# Altium schematic symbol library con-commcon.SCHLIB: 18 symbols
Pins are listed as number, name and electrical type; pins without a type are passive.

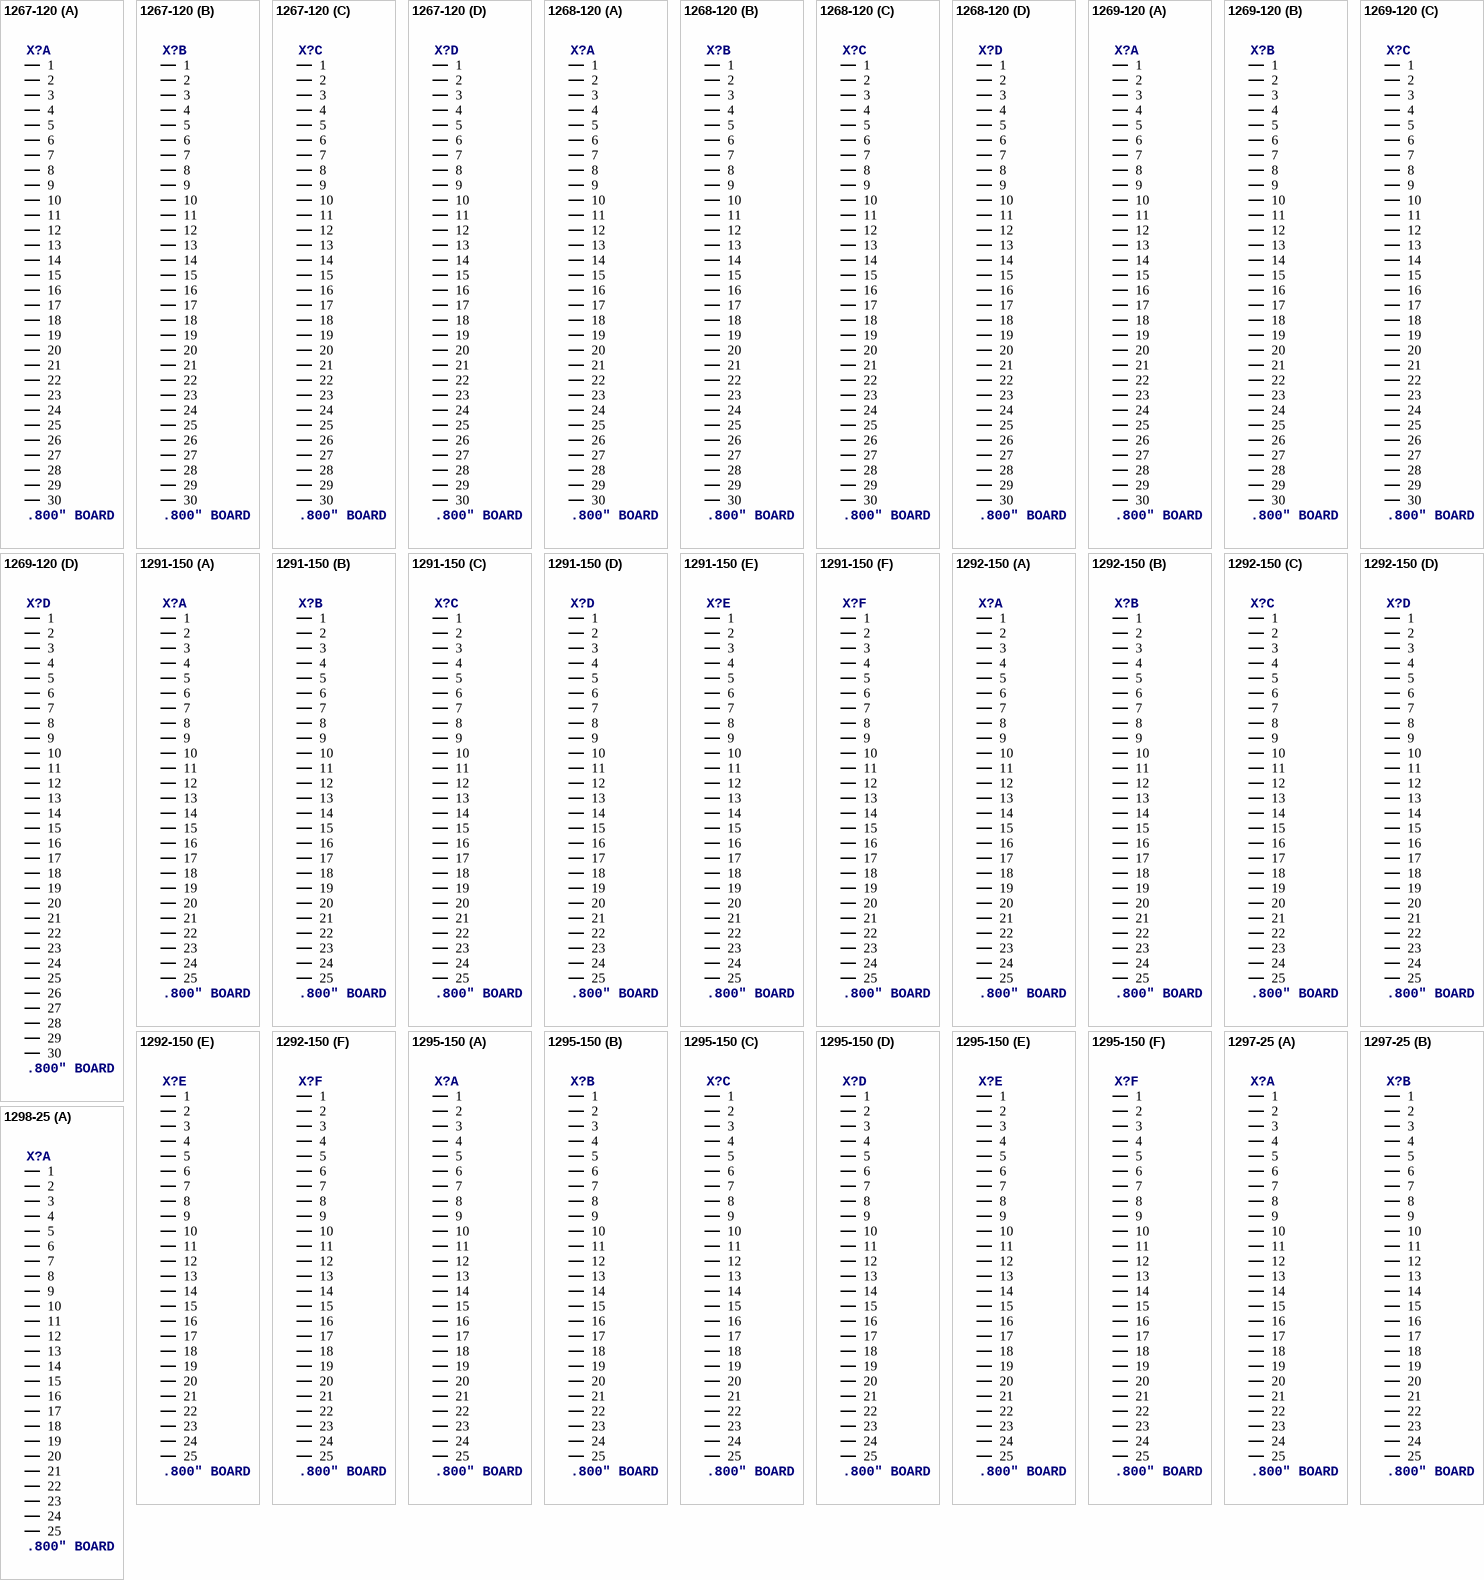
[diagram p0: symbols 1267-120 to 1298-25]

## 1267-120
designator X?, comment .800" BOARD SPACE 2mm CONNECTORS - HI TEMP   FOUR ROW 2mm - STACKTHROUGH & NON-STACKTHROUGH
OC_FARNELL: unknown; OC_NEWARK: unknown
footprint 1267-120
part A pins: A1 1, A2 2, A3 3, A4 4, A5 5, A6 6, A7 7, A8 8, A9 9, A10 10, A11 11, A12 12, A13 13, A14 14, A15 15, A16 16, A17 17, A18 18, A19 19, A20 20, A21 21, A22 22, A23 23, A24 24, A25 25, A26 26, A27 27, A28 28, A29 29, A30 30
part B pins: B1 1, B2 2, B3 3, B4 4, B5 5, B6 6, B7 7, B8 8, B9 9, B10 10, B11 11, B12 12, B13 13, B14 14, B15 15, B16 16, B17 17, B18 18, B19 19, B20 20, B21 21, B22 22, B23 23, B24 24, B25 25, B26 26, B27 27, B28 28, B29 29, B30 30
part C pins: C1 1, C2 2, C3 3, C4 4, C5 5, C6 6, C7 7, C8 8, C9 9, C10 10, C11 11, C12 12, C13 13, C14 14, C15 15, C16 16, C17 17, C18 18, C19 19, C20 20, C21 21, C22 22, C23 23, C24 24, C25 25, C26 26, C27 27, C28 28, C29 29, C30 30
part D pins: D1 1, D2 2, D3 3, D4 4, D5 5, D6 6, D7 7, D8 8, D9 9, D10 10, D11 11, D12 12, D13 13, D14 14, D15 15, D16 16, D17 17, D18 18, D19 19, D20 20, D21 21, D22 22, D23 23, D24 24, D25 25, D26 26, D27 27, D28 28, D29 29, D30 30

## 1268-120
designator X?, comment .800" BOARD SPACE 2mm CONNECTORS - HI TEMP   FOUR ROW 2mm - STACKTHROUGH & NON-STACKTHROUGH
OC_FARNELL: unknown; OC_NEWARK: unknown
footprint 1268-120
part A pins: A1 1, A2 2, A3 3, A4 4, A5 5, A6 6, A7 7, A8 8, A9 9, A10 10, A11 11, A12 12, A13 13, A14 14, A15 15, A16 16, A17 17, A18 18, A19 19, A20 20, A21 21, A22 22, A23 23, A24 24, A25 25, A26 26, A27 27, A28 28, A29 29, A30 30
part B pins: B1 1, B2 2, B3 3, B4 4, B5 5, B6 6, B7 7, B8 8, B9 9, B10 10, B11 11, B12 12, B13 13, B14 14, B15 15, B16 16, B17 17, B18 18, B19 19, B20 20, B21 21, B22 22, B23 23, B24 24, B25 25, B26 26, B27 27, B28 28, B29 29, B30 30
part C pins: C1 1, C2 2, C3 3, C4 4, C5 5, C6 6, C7 7, C8 8, C9 9, C10 10, C11 11, C12 12, C13 13, C14 14, C15 15, C16 16, C17 17, C18 18, C19 19, C20 20, C21 21, C22 22, C23 23, C24 24, C25 25, C26 26, C27 27, C28 28, C29 29, C30 30
part D pins: D1 1, D2 2, D3 3, D4 4, D5 5, D6 6, D7 7, D8 8, D9 9, D10 10, D11 11, D12 12, D13 13, D14 14, D15 15, D16 16, D17 17, D18 18, D19 19, D20 20, D21 21, D22 22, D23 23, D24 24, D25 25, D26 26, D27 27, D28 28, D29 29, D30 30

## 1269-120
designator X?, comment .800" BOARD SPACE 2mm CONNECTORS - HI TEMP   FOUR ROW 2mm - STACKTHROUGH & NON-STACKTHROUGH
OC_FARNELL: unknown; OC_NEWARK: unknown
footprint 1269-120
part A pins: A1 1, A2 2, A3 3, A4 4, A5 5, A6 6, A7 7, A8 8, A9 9, A10 10, A11 11, A12 12, A13 13, A14 14, A15 15, A16 16, A17 17, A18 18, A19 19, A20 20, A21 21, A22 22, A23 23, A24 24, A25 25, A26 26, A27 27, A28 28, A29 29, A30 30
part B pins: B1 1, B2 2, B3 3, B4 4, B5 5, B6 6, B7 7, B8 8, B9 9, B10 10, B11 11, B12 12, B13 13, B14 14, B15 15, B16 16, B17 17, B18 18, B19 19, B20 20, B21 21, B22 22, B23 23, B24 24, B25 25, B26 26, B27 27, B28 28, B29 29, B30 30
part C pins: C1 1, C2 2, C3 3, C4 4, C5 5, C6 6, C7 7, C8 8, C9 9, C10 10, C11 11, C12 12, C13 13, C14 14, C15 15, C16 16, C17 17, C18 18, C19 19, C20 20, C21 21, C22 22, C23 23, C24 24, C25 25, C26 26, C27 27, C28 28, C29 29, C30 30
part D pins: D1 1, D2 2, D3 3, D4 4, D5 5, D6 6, D7 7, D8 8, D9 9, D10 10, D11 11, D12 12, D13 13, D14 14, D15 15, D16 16, D17 17, D18 18, D19 19, D20 20, D21 21, D22 22, D23 23, D24 24, D25 25, D26 26, D27 27, D28 28, D29 29, D30 30

## 1291-150
designator X?, comment .800" BOARD SPACE 2mm CONNECTORS - HI TEMP   6 ROW 2mm - NON-STACKTHROUGH
OC_FARNELL: unknown; OC_NEWARK: unknown
footprint 1291-150
part A pins: A1 1, A2 2, A3 3, A4 4, A5 5, A6 6, A7 7, A8 8, A9 9, A10 10, A11 11, A12 12, A13 13, A14 14, A15 15, A16 16, A17 17, A18 18, A19 19, A20 20, A21 21, A22 22, A23 23, A24 24, A25 25
part B pins: B1 1, B2 2, B3 3, B4 4, B5 5, B6 6, B7 7, B8 8, B9 9, B10 10, B11 11, B12 12, B13 13, B14 14, B15 15, B16 16, B17 17, B18 18, B19 19, B20 20, B21 21, B22 22, B23 23, B24 24, B25 25
part C pins: C1 1, C2 2, C3 3, C4 4, C5 5, C6 6, C7 7, C8 8, C9 9, C10 10, C11 11, C12 12, C13 13, C14 14, C15 15, C16 16, C17 17, C18 18, C19 19, C20 20, C21 21, C22 22, C23 23, C24 24, C25 25
part D pins: D1 1, D2 2, D3 3, D4 4, D5 5, D6 6, D7 7, D8 8, D9 9, D10 10, D11 11, D12 12, D13 13, D14 14, D15 15, D16 16, D17 17, D18 18, D19 19, D20 20, D21 21, D22 22, D23 23, D24 24, D25 25
part E pins: E1 1, E2 2, E3 3, E4 4, E5 5, E6 6, E7 7, E8 8, E9 9, E10 10, E11 11, E12 12, E13 13, E14 14, E15 15, E16 16, E17 17, E18 18, E19 19, E20 20, E21 21, E22 22, E23 23, E24 24, E25 25
part F pins: F1 1, F2 2, F3 3, F4 4, F5 5, F6 6, F7 7, F8 8, F9 9, F10 10, F11 11, F12 12, F13 13, F14 14, F15 15, F16 16, F17 17, F18 18, F19 19, F20 20, F21 21, F22 22, F23 23, F24 24, F25 25

## 1292-150
designator X?, comment .800" BOARD SPACE 2mm CONNECTORS - HI TEMP   6 ROW 2mm - STACKTHROUGH
OC_FARNELL: unknown; OC_NEWARK: unknown
footprint 1292-150
part A pins: A1 1, A2 2, A3 3, A4 4, A5 5, A6 6, A7 7, A8 8, A9 9, A10 10, A11 11, A12 12, A13 13, A14 14, A15 15, A16 16, A17 17, A18 18, A19 19, A20 20, A21 21, A22 22, A23 23, A24 24, A25 25
part B pins: B1 1, B2 2, B3 3, B4 4, B5 5, B6 6, B7 7, B8 8, B9 9, B10 10, B11 11, B12 12, B13 13, B14 14, B15 15, B16 16, B17 17, B18 18, B19 19, B20 20, B21 21, B22 22, B23 23, B24 24, B25 25
part C pins: C1 1, C2 2, C3 3, C4 4, C5 5, C6 6, C7 7, C8 8, C9 9, C10 10, C11 11, C12 12, C13 13, C14 14, C15 15, C16 16, C17 17, C18 18, C19 19, C20 20, C21 21, C22 22, C23 23, C24 24, C25 25
part D pins: D1 1, D2 2, D3 3, D4 4, D5 5, D6 6, D7 7, D8 8, D9 9, D10 10, D11 11, D12 12, D13 13, D14 14, D15 15, D16 16, D17 17, D18 18, D19 19, D20 20, D21 21, D22 22, D23 23, D24 24, D25 25
part E pins: E1 1, E2 2, E3 3, E4 4, E5 5, E6 6, E7 7, E8 8, E9 9, E10 10, E11 11, E12 12, E13 13, E14 14, E15 15, E16 16, E17 17, E18 18, E19 19, E20 20, E21 21, E22 22, E23 23, E24 24, E25 25
part F pins: F1 1, F2 2, F3 3, F4 4, F5 5, F6 6, F7 7, F8 8, F9 9, F10 10, F11 11, F12 12, F13 13, F14 14, F15 15, F16 16, F17 17, F18 18, F19 19, F20 20, F21 21, F22 22, F23 23, F24 24, F25 25

## 1295-150
designator X?, comment .800" BOARD SPACE 2mm CONNECTORS - HI TEMP   6 ROW 2mm- END OF STACK HEADER
OC_FARNELL: unknown; OC_NEWARK: unknown
footprint 1295-150
part A pins: A1 1, A2 2, A3 3, A4 4, A5 5, A6 6, A7 7, A8 8, A9 9, A10 10, A11 11, A12 12, A13 13, A14 14, A15 15, A16 16, A17 17, A18 18, A19 19, A20 20, A21 21, A22 22, A23 23, A24 24, A25 25
part B pins: B1 1, B2 2, B3 3, B4 4, B5 5, B6 6, B7 7, B8 8, B9 9, B10 10, B11 11, B12 12, B13 13, B14 14, B15 15, B16 16, B17 17, B18 18, B19 19, B20 20, B21 21, B22 22, B23 23, B24 24, B25 25
part C pins: C1 1, C2 2, C3 3, C4 4, C5 5, C6 6, C7 7, C8 8, C9 9, C10 10, C11 11, C12 12, C13 13, C14 14, C15 15, C16 16, C17 17, C18 18, C19 19, C20 20, C21 21, C22 22, C23 23, C24 24, C25 25
part D pins: D1 1, D2 2, D3 3, D4 4, D5 5, D6 6, D7 7, D8 8, D9 9, D10 10, D11 11, D12 12, D13 13, D14 14, D15 15, D16 16, D17 17, D18 18, D19 19, D20 20, D21 21, D22 22, D23 23, D24 24, D25 25
part E pins: E1 1, E2 2, E3 3, E4 4, E5 5, E6 6, E7 7, E8 8, E9 9, E10 10, E11 11, E12 12, E13 13, E14 14, E15 15, E16 16, E17 17, E18 18, E19 19, E20 20, E21 21, E22 22, E23 23, E24 24, E25 25
part F pins: F1 1, F2 2, F3 3, F4 4, F5 5, F6 6, F7 7, F8 8, F9 9, F10 10, F11 11, F12 12, F13 13, F14 14, F15 15, F16 16, F17 17, F18 18, F19 19, F20 20, F21 21, F22 22, F23 23, F24 24, F25 25

## 1297-25
designator X?, comment .800" BOARD SPACE 2mm CONNECTORS - HI TEMP   TWO ROW 2mm - NON-STACKTHROUGH
OC_FARNELL: unknown; OC_NEWARK: unknown
footprint 1297-25
part A pins: A1 1, A2 2, A3 3, A4 4, A5 5, A6 6, A7 7, A8 8, A9 9, A10 10, A11 11, A12 12, A13 13, A14 14, A15 15, A16 16, A17 17, A18 18, A19 19, A20 20, A21 21, A22 22, A23 23, A24 24, A25 25
part B pins: B1 1, B2 2, B3 3, B4 4, B5 5, B6 6, B7 7, B8 8, B9 9, B10 10, B11 11, B12 12, B13 13, B14 14, B15 15, B16 16, B17 17, B18 18, B19 19, B20 20, B21 21, B22 22, B23 23, B24 24, B25 25

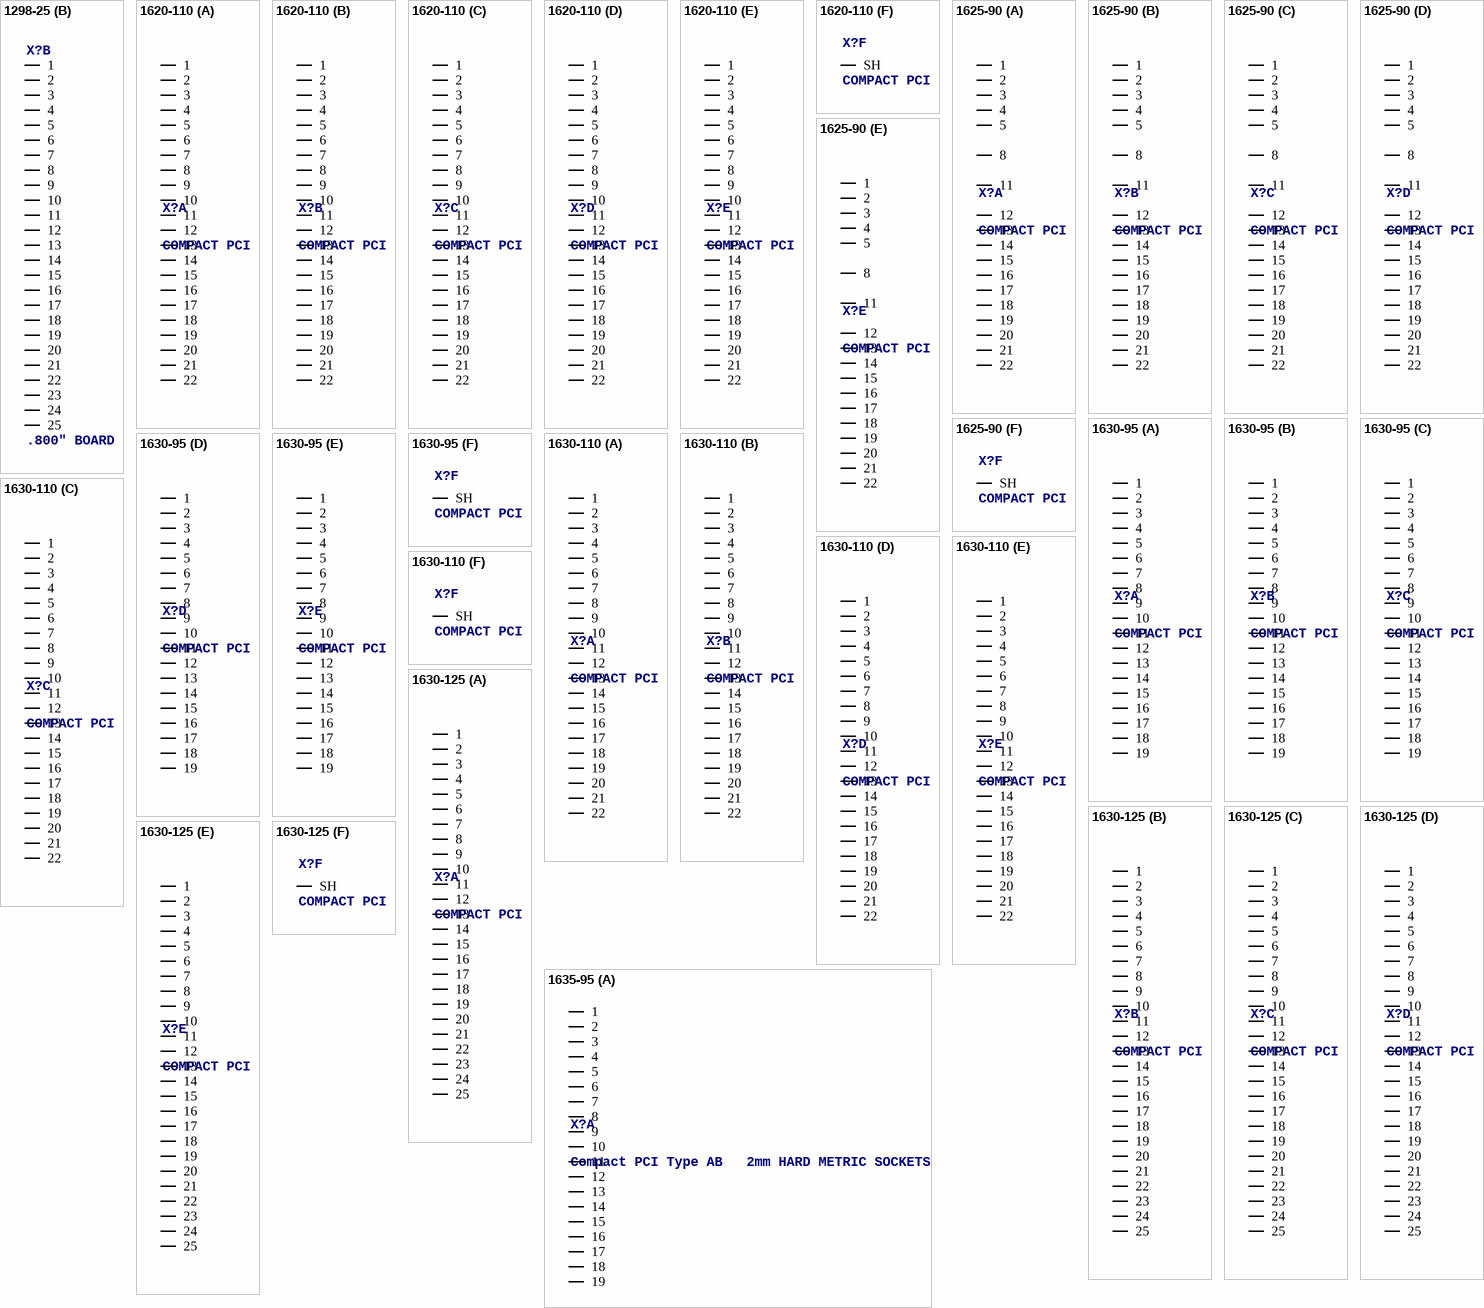
[diagram p1: symbols 1298-25 to 1635-95]

## 1298-25
designator X?, comment .800" BOARD SPACE 2mm CONNECTORS - HI TEMP   TWO ROW 2mm - STACKTHROUGH
OC_FARNELL: unknown; OC_NEWARK: unknown
footprint 1298-25
part A pins: A1 1, A2 2, A3 3, A4 4, A5 5, A6 6, A7 7, A8 8, A9 9, A10 10, A11 11, A12 12, A13 13, A14 14, A15 15, A16 16, A17 17, A18 18, A19 19, A20 20, A21 21, A22 22, A23 23, A24 24, A25 25
part B pins: B1 1, B2 2, B3 3, B4 4, B5 5, B6 6, B7 7, B8 8, B9 9, B10 10, B11 11, B12 12, B13 13, B14 14, B15 15, B16 16, B17 17, B18 18, B19 19, B20 20, B21 21, B22 22, B23 23, B24 24, B25 25

## 1620-110
designator X?, comment COMPACT PCI TYPE A - 110 PINS   2mm HARD METRIC SOCKETS
OC_FARNELL: unknown; OC_NEWARK: unknown
footprint 1620-110
part A pins: A1 1, A2 2, A3 3, A4 4, A5 5, A6 6, A7 7, A8 8, A9 9, A10 10, A11 11, A12 12, A13 13, A14 14, A15 15, A16 16, A17 17, A18 18, A19 19, A20 20, A21 21, A22 22
part B pins: B1 1, B2 2, B3 3, B4 4, B5 5, B6 6, B7 7, B8 8, B9 9, B10 10, B11 11, B12 12, B13 13, B14 14, B15 15, B16 16, B17 17, B18 18, B19 19, B20 20, B21 21, B22 22
part C pins: C1 1, C2 2, C3 3, C4 4, C5 5, C6 6, C7 7, C8 8, C9 9, C10 10, C11 11, C12 12, C13 13, C14 14, C15 15, C16 16, C17 17, C18 18, C19 19, C20 20, C21 21, C22 22
part D pins: D1 1, D2 2, D3 3, D4 4, D5 5, D6 6, D7 7, D8 8, D9 9, D10 10, D11 11, D12 12, D13 13, D14 14, D15 15, D16 16, D17 17, D18 18, D19 19, D20 20, D21 21, D22 22
part E pins: E1 1, E2 2, E3 3, E4 4, E5 5, E6 6, E7 7, E8 8, E9 9, E10 10, E11 11, E12 12, E13 13, E14 14, E15 15, E16 16, E17 17, E18 18, E19 19, E20 20, E21 21, E22 22
part F pins: F1 SH

## 1625-90
designator X?, comment COMPACT PCI TYPE A - 90 PINS (TELEPHONY)   2mm HARD METRIC SOCKETS
OC_FARNELL: unknown; OC_NEWARK: unknown
footprint 1625-90
part A pins: A1 1, A2 2, A3 3, A4 4, A5 5, A8 8, A11 11, A12 12, A13 13, A14 14, A15 15, A16 16, A17 17, A18 18, A19 19, A20 20, A21 21, A22 22
part B pins: B1 1, B2 2, B3 3, B4 4, B5 5, B8 8, B11 11, B12 12, B13 13, B14 14, B15 15, B16 16, B17 17, B18 18, B19 19, B20 20, B21 21, B22 22
part C pins: C1 1, C2 2, C3 3, C4 4, C5 5, C8 8, C11 11, C12 12, C13 13, C14 14, C15 15, C16 16, C17 17, C18 18, C19 19, C20 20, C21 21, C22 22
part D pins: D1 1, D2 2, D3 3, D4 4, D5 5, D8 8, D11 11, D12 12, D13 13, D14 14, D15 15, D16 16, D17 17, D18 18, D19 19, D20 20, D21 21, D22 22
part E pins: E1 1, E2 2, E3 3, E4 4, E5 5, E8 8, E11 11, E12 12, E13 13, E14 14, E15 15, E16 16, E17 17, E18 18, E19 19, E20 20, E21 21, E22 22
part F pins: F1 SH

## 1630-95
designator X?, comment COMPACT PCI TYPE B - 95 PINS   2mm HARD METRIC SOCKETS
OC_FARNELL: unknown; OC_NEWARK: unknown
footprint 1630-95
part A pins: A1 1, A2 2, A3 3, A4 4, A5 5, A6 6, A7 7, A8 8, A9 9, A10 10, A11 11, A12 12, A13 13, A14 14, A15 15, A16 16, A17 17, A18 18, A19 19
part B pins: B1 1, B2 2, B3 3, B4 4, B5 5, B6 6, B7 7, B8 8, B9 9, B10 10, B11 11, B12 12, B13 13, B14 14, B15 15, B16 16, B17 17, B18 18, B19 19
part C pins: C1 1, C2 2, C3 3, C4 4, C5 5, C6 6, C7 7, C8 8, C9 9, C10 10, C11 11, C12 12, C13 13, C14 14, C15 15, C16 16, C17 17, C18 18, C19 19
part D pins: D1 1, D2 2, D3 3, D4 4, D5 5, D6 6, D7 7, D8 8, D9 9, D10 10, D11 11, D12 12, D13 13, D14 14, D15 15, D16 16, D17 17, D18 18, D19 19
part E pins: E1 1, E2 2, E3 3, E4 4, E5 5, E6 6, E7 7, E8 8, E9 9, E10 10, E11 11, E12 12, E13 13, E14 14, E15 15, E16 16, E17 17, E18 18, E19 19
part F pins: F1 SH

## 1630-110
designator X?, comment COMPACT PCI TYPE B - 110 PINS   2mm HARD METRIC SOCKETS
MPN: 16-301-1-01; OC_FARNELL: unknown; OC_NEWARK: 97M8043
footprint 1630-110
part A pins: A1 1, A2 2, A3 3, A4 4, A5 5, A6 6, A7 7, A8 8, A9 9, A10 10, A11 11, A12 12, A13 13, A14 14, A15 15, A16 16, A17 17, A18 18, A19 19, A20 20, A21 21, A22 22
part B pins: B1 1, B2 2, B3 3, B4 4, B5 5, B6 6, B7 7, B8 8, B9 9, B10 10, B11 11, B12 12, B13 13, B14 14, B15 15, B16 16, B17 17, B18 18, B19 19, B20 20, B21 21, B22 22
part C pins: C1 1, C2 2, C3 3, C4 4, C5 5, C6 6, C7 7, C8 8, C9 9, C10 10, C11 11, C12 12, C13 13, C14 14, C15 15, C16 16, C17 17, C18 18, C19 19, C20 20, C21 21, C22 22
part D pins: D1 1, D2 2, D3 3, D4 4, D5 5, D6 6, D7 7, D8 8, D9 9, D10 10, D11 11, D12 12, D13 13, D14 14, D15 15, D16 16, D17 17, D18 18, D19 19, D20 20, D21 21, D22 22
part E pins: E1 1, E2 2, E3 3, E4 4, E5 5, E6 6, E7 7, E8 8, E9 9, E10 10, E11 11, E12 12, E13 13, E14 14, E15 15, E16 16, E17 17, E18 18, E19 19, E20 20, E21 21, E22 22
part F pins: F1 SH

## 1630-125
designator X?, comment COMPACT PCI TYPE B - 125 PINS   2mm HARD METRIC SOCKETS
OC_FARNELL: unknown; OC_NEWARK: unknown
footprint 1630-125
part A pins: A1 1, A2 2, A3 3, A4 4, A5 5, A6 6, A7 7, A8 8, A9 9, A10 10, A11 11, A12 12, A13 13, A14 14, A15 15, A16 16, A17 17, A18 18, A19 19, A20 20, A21 21, A22 22, A23 23, A24 24, A25 25
part B pins: B1 1, B2 2, B3 3, B4 4, B5 5, B6 6, B7 7, B8 8, B9 9, B10 10, B11 11, B12 12, B13 13, B14 14, B15 15, B16 16, B17 17, B18 18, B19 19, B20 20, B21 21, B22 22, B23 23, B24 24, B25 25
part C pins: C1 1, C2 2, C3 3, C4 4, C5 5, C6 6, C7 7, C8 8, C9 9, C10 10, C11 11, C12 12, C13 13, C14 14, C15 15, C16 16, C17 17, C18 18, C19 19, C20 20, C21 21, C22 22, C23 23, C24 24, C25 25
part D pins: D1 1, D2 2, D3 3, D4 4, D5 5, D6 6, D7 7, D8 8, D9 9, D10 10, D11 11, D12 12, D13 13, D14 14, D15 15, D16 16, D17 17, D18 18, D19 19, D20 20, D21 21, D22 22, D23 23, D24 24, D25 25
part E pins: E1 1, E2 2, E3 3, E4 4, E5 5, E6 6, E7 7, E8 8, E9 9, E10 10, E11 11, E12 12, E13 13, E14 14, E15 15, E16 16, E17 17, E18 18, E19 19, E20 20, E21 21, E22 22, E23 23, E24 24, E25 25
part F pins: F1 SH

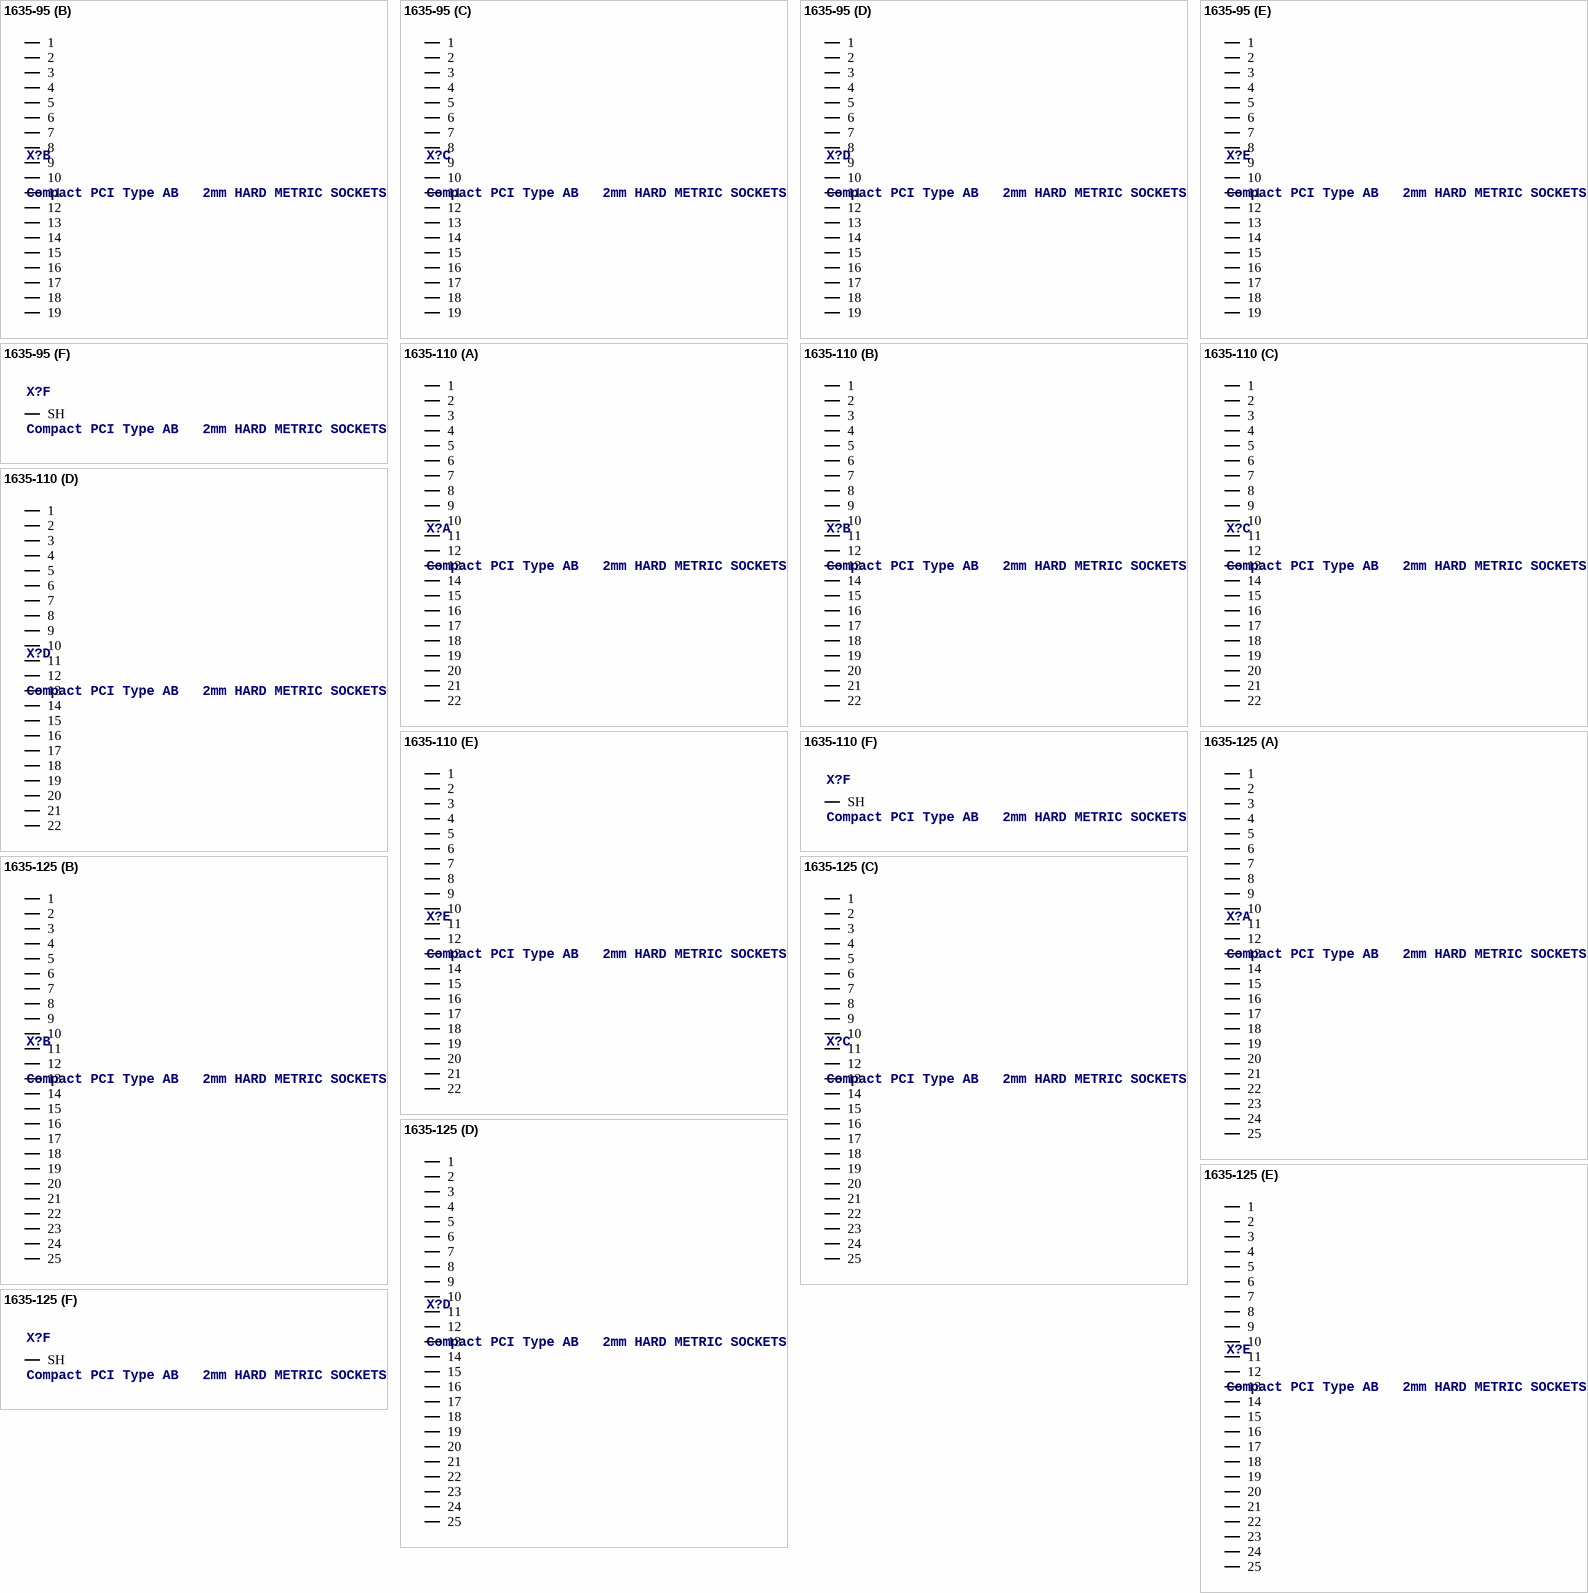
[diagram p2: symbols 1635-95 to 1635-125]

## 1635-95
designator X?, comment Compact PCI Type AB   2mm HARD METRIC SOCKETS
OC_FARNELL: unknown; OC_NEWARK: unknown
footprint 1635-95
part A pins: A1 1, A2 2, A3 3, A4 4, A5 5, A6 6, A7 7, A8 8, A9 9, A10 10, A11 11, A12 12, A13 13, A14 14, A15 15, A16 16, A17 17, A18 18, A19 19
part B pins: B1 1, B2 2, B3 3, B4 4, B5 5, B6 6, B7 7, B8 8, B9 9, B10 10, B11 11, B12 12, B13 13, B14 14, B15 15, B16 16, B17 17, B18 18, B19 19
part C pins: C1 1, C2 2, C3 3, C4 4, C5 5, C6 6, C7 7, C8 8, C9 9, C10 10, C11 11, C12 12, C13 13, C14 14, C15 15, C16 16, C17 17, C18 18, C19 19
part D pins: D1 1, D2 2, D3 3, D4 4, D5 5, D6 6, D7 7, D8 8, D9 9, D10 10, D11 11, D12 12, D13 13, D14 14, D15 15, D16 16, D17 17, D18 18, D19 19
part E pins: E1 1, E2 2, E3 3, E4 4, E5 5, E6 6, E7 7, E8 8, E9 9, E10 10, E11 11, E12 12, E13 13, E14 14, E15 15, E16 16, E17 17, E18 18, E19 19
part F pins: F1 SH

## 1635-110
designator X?, comment Compact PCI Type AB   2mm HARD METRIC SOCKETS
OC_FARNELL: unknown; OC_NEWARK: unknown
footprint 1635-110
part A pins: A1 1, A2 2, A3 3, A4 4, A5 5, A6 6, A7 7, A8 8, A9 9, A10 10, A11 11, A12 12, A13 13, A14 14, A15 15, A16 16, A17 17, A18 18, A19 19, A20 20, A21 21, A22 22
part B pins: B1 1, B2 2, B3 3, B4 4, B5 5, B6 6, B7 7, B8 8, B9 9, B10 10, B11 11, B12 12, B13 13, B14 14, B15 15, B16 16, B17 17, B18 18, B19 19, B20 20, B21 21, B22 22
part C pins: C1 1, C2 2, C3 3, C4 4, C5 5, C6 6, C7 7, C8 8, C9 9, C10 10, C11 11, C12 12, C13 13, C14 14, C15 15, C16 16, C17 17, C18 18, C19 19, C20 20, C21 21, C22 22
part D pins: D1 1, D2 2, D3 3, D4 4, D5 5, D6 6, D7 7, D8 8, D9 9, D10 10, D11 11, D12 12, D13 13, D14 14, D15 15, D16 16, D17 17, D18 18, D19 19, D20 20, D21 21, D22 22
part E pins: E1 1, E2 2, E3 3, E4 4, E5 5, E6 6, E7 7, E8 8, E9 9, E10 10, E11 11, E12 12, E13 13, E14 14, E15 15, E16 16, E17 17, E18 18, E19 19, E20 20, E21 21, E22 22
part F pins: F1 SH

## 1635-125
designator X?, comment Compact PCI Type AB   2mm HARD METRIC SOCKETS
OC_FARNELL: unknown; OC_NEWARK: unknown
footprint 1635-125
part A pins: A1 1, A2 2, A3 3, A4 4, A5 5, A6 6, A7 7, A8 8, A9 9, A10 10, A11 11, A12 12, A13 13, A14 14, A15 15, A16 16, A17 17, A18 18, A19 19, A20 20, A21 21, A22 22, A23 23, A24 24, A25 25
part B pins: B1 1, B2 2, B3 3, B4 4, B5 5, B6 6, B7 7, B8 8, B9 9, B10 10, B11 11, B12 12, B13 13, B14 14, B15 15, B16 16, B17 17, B18 18, B19 19, B20 20, B21 21, B22 22, B23 23, B24 24, B25 25
part C pins: C1 1, C2 2, C3 3, C4 4, C5 5, C6 6, C7 7, C8 8, C9 9, C10 10, C11 11, C12 12, C13 13, C14 14, C15 15, C16 16, C17 17, C18 18, C19 19, C20 20, C21 21, C22 22, C23 23, C24 24, C25 25
part D pins: D1 1, D2 2, D3 3, D4 4, D5 5, D6 6, D7 7, D8 8, D9 9, D10 10, D11 11, D12 12, D13 13, D14 14, D15 15, D16 16, D17 17, D18 18, D19 19, D20 20, D21 21, D22 22, D23 23, D24 24, D25 25
part E pins: E1 1, E2 2, E3 3, E4 4, E5 5, E6 6, E7 7, E8 8, E9 9, E10 10, E11 11, E12 12, E13 13, E14 14, E15 15, E16 16, E17 17, E18 18, E19 19, E20 20, E21 21, E22 22, E23 23, E24 24, E25 25
part F pins: F1 SH

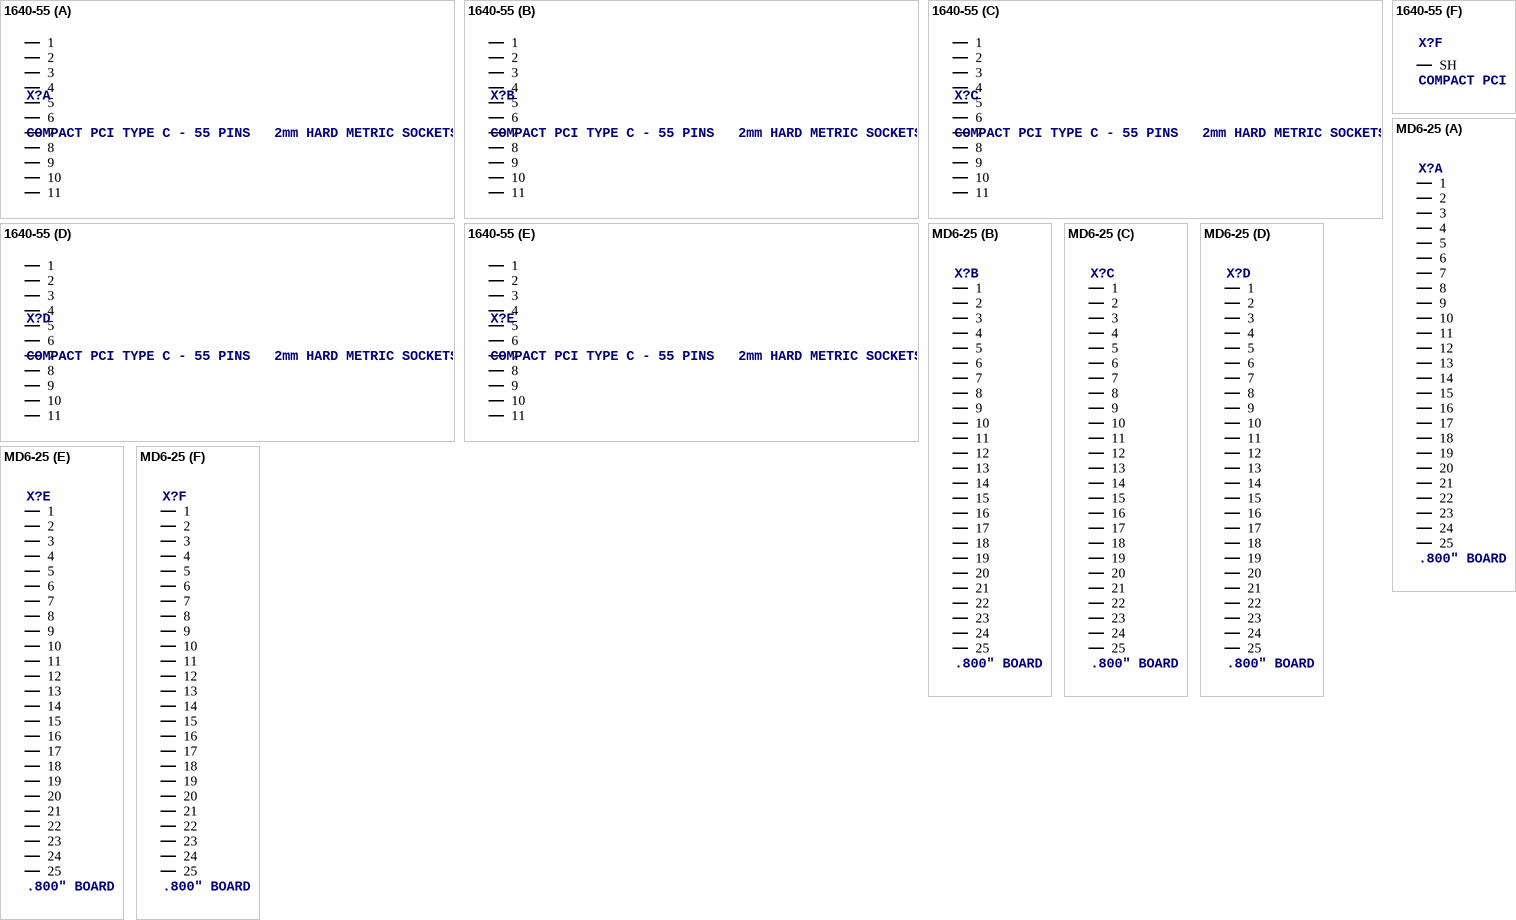
[diagram p3: symbols 1640-55 to MD6-25]

## 1640-55
designator X?, comment COMPACT PCI TYPE C - 55 PINS   2mm HARD METRIC SOCKETS
OC_FARNELL: unknown; OC_NEWARK: unknown
footprint 1640-55
part A pins: A1 1, A2 2, A3 3, A4 4, A5 5, A6 6, A7 7, A8 8, A9 9, A10 10, A11 11
part B pins: B1 1, B2 2, B3 3, B4 4, B5 5, B6 6, B7 7, B8 8, B9 9, B10 10, B11 11
part C pins: C1 1, C2 2, C3 3, C4 4, C5 5, C6 6, C7 7, C8 8, C9 9, C10 10, C11 11
part D pins: D1 1, D2 2, D3 3, D4 4, D5 5, D6 6, D7 7, D8 8, D9 9, D10 10, D11 11
part E pins: E1 1, E2 2, E3 3, E4 4, E5 5, E6 6, E7 7, E8 8, E9 9, E10 10, E11 11
part F pins: F1 SH

## MD6-25
designator X?, comment .800" BOARD SPACE 2mm CONNECTORS - HI TEMP   2mm 6 ROW SPACER HEADERS
OC_FARNELL: unknown; OC_NEWARK: unknown
footprint MD6-25
part A pins: A1 1, A2 2, A3 3, A4 4, A5 5, A6 6, A7 7, A8 8, A9 9, A10 10, A11 11, A12 12, A13 13, A14 14, A15 15, A16 16, A17 17, A18 18, A19 19, A20 20, A21 21, A22 22, A23 23, A24 24, A25 25
part B pins: B1 1, B2 2, B3 3, B4 4, B5 5, B6 6, B7 7, B8 8, B9 9, B10 10, B11 11, B12 12, B13 13, B14 14, B15 15, B16 16, B17 17, B18 18, B19 19, B20 20, B21 21, B22 22, B23 23, B24 24, B25 25
part C pins: C1 1, C2 2, C3 3, C4 4, C5 5, C6 6, C7 7, C8 8, C9 9, C10 10, C11 11, C12 12, C13 13, C14 14, C15 15, C16 16, C17 17, C18 18, C19 19, C20 20, C21 21, C22 22, C23 23, C24 24, C25 25
part D pins: D1 1, D2 2, D3 3, D4 4, D5 5, D6 6, D7 7, D8 8, D9 9, D10 10, D11 11, D12 12, D13 13, D14 14, D15 15, D16 16, D17 17, D18 18, D19 19, D20 20, D21 21, D22 22, D23 23, D24 24, D25 25
part E pins: E1 1, E2 2, E3 3, E4 4, E5 5, E6 6, E7 7, E8 8, E9 9, E10 10, E11 11, E12 12, E13 13, E14 14, E15 15, E16 16, E17 17, E18 18, E19 19, E20 20, E21 21, E22 22, E23 23, E24 24, E25 25
part F pins: F1 1, F2 2, F3 3, F4 4, F5 5, F6 6, F7 7, F8 8, F9 9, F10 10, F11 11, F12 12, F13 13, F14 14, F15 15, F16 16, F17 17, F18 18, F19 19, F20 20, F21 21, F22 22, F23 23, F24 24, F25 25